# Altium schematic symbol library IoTBox.SchLib: 12 symbols
Pins are listed as number, name and electrical type; pins without a type are passive.

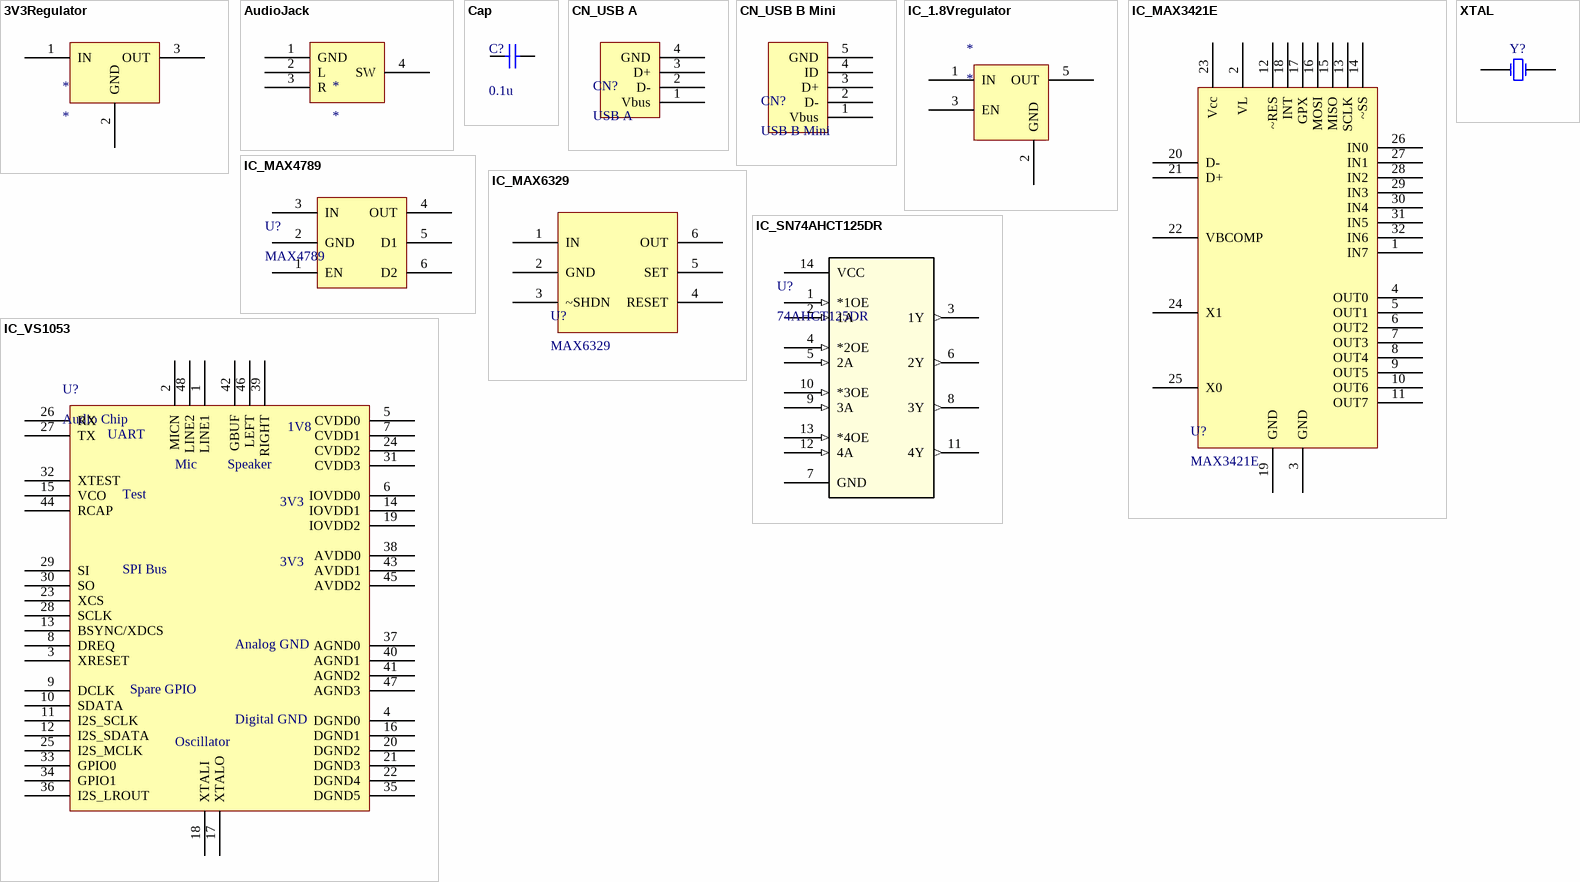
[diagram p0: symbols 3V3Regulator to XTAL]

## 3V3Regulator
designator *
footprint SOT223_M (Footprint not found)
pins: 1 IN, 2 GND, 3 OUT

## AudioJack
designator *
footprint Audio_Jack
pins: 1 GND, 2 L, 3 R, 4 SW

## Cap
designator C?, comment 0.1u
Capacitor; Published: 8-Jun-2000; LatestRevisionDate: 17-Jul-2002; LatestRevisionNote: Re-released for DXP Platform.; PackageReference: RAD-0.3; Publisher: Altium Limited; PackageDescription: Radial Cap, Thru-Hole; 2 Leads; 0.3 in Pin Spacing; Value: 0.1u
footprint RAD-0.3 (Radial Cap, Thru-Hole; 2 Leads; 0.3 in Pin Spacing)
simulation model CAP (Capacitor)
signal-integrity model Cap
footprint 1210(3225metric)
footprint 0402 (Chip Capacitor, Body 1.0x0.5mm, IPC High Density)
pins: 1, 2

## CN_USB A
designator CN?, comment USB A
USB A Socket; Part Number: A108853CT-ND; Created by: Dan; Supplier: Digi-Key; URL: http://www.digikey.com/product-detail/en/te-connectivity-amp-connectors/292303-9/A108853CT-ND/4031485
footprint USB A
pins: 1 Vbus, 2 D-, 3 D+, 4 GND

## CN_USB B Mini
designator CN?, comment USB B Mini
USB B Mini Socket; Part Number: 609-4700-1-ND; Created by: Dan; Supplier: Digi-Key; URL: http://www.digikey.com/product-detail/en/amphenol-fci/10033526-N3212LF/609-4700-1-ND/4292063
footprint USB B Mini
pins: 1 Vbus, 2 D-, 3 D+, 4 ID, 5 GND

## IC_1.8Vregulator
designator *
footprint SOT23-6
pins: 1 IN, 2 GND, 3 EN, 5 OUT

## IC_MAX3421E
designator U?, comment MAX3421E
USB Peripheral/Host Controller with SPI Interface; Part Number: MAX3421EEHJ+-ND; Designer: Dan; Supplier: Digi-Key; URL: http://www.digikey.com/product-detail/en/maxim-integrated/MAX3421EEHJ-/MAX3421EEHJ--ND/1464975
footprint TQFP_32 (thin quad flat pack 32 pin 0.5mm pitch)
pins: 1 IN7, 2 VL, 3 GND, 4 OUT0, 5 OUT1, 6 OUT2, 7 OUT3, 8 OUT4, 9 OUT5, 10 OUT6, 11 OUT7, 12 ~RES, 13 SCLK, 14 ~SS, 15 MISO, 16 MOSI, 17 GPX, 18 INT, 19 GND, 20 D-, 21 D+, 22 VBCOMP, 23 Vcc, 24 X1, 25 X0, 26 IN0, 27 IN1, 28 IN2, 29 IN3, 30 IN4, 31 IN5, 32 IN6

## IC_MAX4789
designator U?, comment MAX4789
500mA Current Limiter; Part Number: TPD3S014DBVR; Creator: Dan; Supplier: Digi-Key; URL: http://www.digikey.com/products/en/integrated-circuits-ics/pmic-current-regulation-management/734?k=&pkeyword=&pv7=2&pv1989=0&pv127=4866&pv16=986&FV=ffe002de%2C204003c&mnonly=0&newproducts=0&ColumnSort=0&page=1&quantity=0&ptm=0&fid=0&pageSize=25
footprint SOT23-6
pins: 1 EN, 2 GND, 3 IN, 4 OUT, 5 D1, 6 D2

## IC_MAX6329
designator U?, comment MAX6329
Linear Voltage Regulator IC Positive Fixed or Adjustable Output 3.3V, 1.23 V ~ 5 V 150mA SOT-23-6; Part Number: MAX6329TPUT+TCT-ND; Creator: Dan; Supplier: Digi-Key; URL: http://www.digikey.com/product-detail/en/maxim-integrated/MAX6329TPUT-T/MAX6329TPUT-TCT-ND/5821148
footprint SOT23-6
pins: 1 IN, 2 GND, 3 ~SHDN, 4 RESET, 5 SET, 6 OUT

## IC_SN74AHCT125DR
designator U?, comment 74AHCT125DR
TriState Buffer; Manufacturer_Part_Number: SN74AHCT125DR; Vendor: Texas Instruments; Section: Unknown; C: Copyright (C) 2015 Accelerated Designs. All rights reserved; Family: Unknown; Manufacturer_Name: Texas Instruments; Copyright: Copyright (C) 2015 Accelerated Designs. All rights reserved; RS_Part_Number: 527518; Value: Value; Type: Type; RefDes: RefDes
footprint D14
footprint DIP-14 (DIP; 14 Leads; Row Spacing 7.62 mm; Pitch 2.54 mm)
pins: 1 *1OE (in), 2 1A (in), 3 1Y (out), 4 *2OE (in), 5 2A (in), 6 2Y (out), 7 GND (power), 8 3Y (out), 9 3A (in), 10 *3OE (in), 11 4Y (out), 12 4A (in), 13 *4OE (in), 14 VCC (power)

## IC_VS1053
designator U?, comment Audio Chip
URL: http://www.vlsi.fi/fileadmin/datasheets/vs1053.pdf
footprint LQFP48
pins: 1 LINE1, 2 MICN, 3 XRESET, 4 DGND0, 5 CVDD0, 6 IOVDD0, 7 CVDD1, 8 DREQ, 9 DCLK, 10 SDATA, 11 I2S_SCLK, 12 I2S_SDATA, 13 BSYNC/XDCS, 14 IOVDD1, 15 VCO, 16 DGND1, 17 XTALO, 18 XTALI, 19 IOVDD2, 20 DGND2, 21 DGND3, 22 DGND4, 23 XCS, 24 CVDD2, 25 I2S_MCLK, 26 RX, 27 TX, 28 SCLK, 29 SI, 30 SO, 31 CVDD3, 32 XTEST, 33 GPIO0, 34 GPIO1, 35 DGND5, 36 I2S_LROUT, 37 AGND0, 38 AVDD0, 39 RIGHT, 40 AGND1, 41 AGND2, 42 GBUF, 43 AVDD1, 44 RCAP, 45 AVDD2, 46 LEFT, 47 AGND3, 48 LINE2
text: 1V8; UART; Mic; Speaker; Test; 3V3; SPI Bus; Analog GND; Spare GPIO; Digital GND; Oscillator

## XTAL
designator Y?
Crystal Oscillator; Published: 8-Jun-2000; LatestRevisionDate: 17-Jul-2002; LatestRevisionNote: Re-released for DXP Platform.; PackageReference: R38; Publisher: Altium Limited; PackageDescription: Crystal, Thru-Hole; 2 Leads; Body 3.1 x 8.2 mm (Dia.xH)
simulation model XTAL (Spice Subcircuit)
footprint XTAL SMD
pins: 1 OSC1, 2 OSC2